# EAGLE library part SIMM68/2 (library con-amp1)
AMP connector
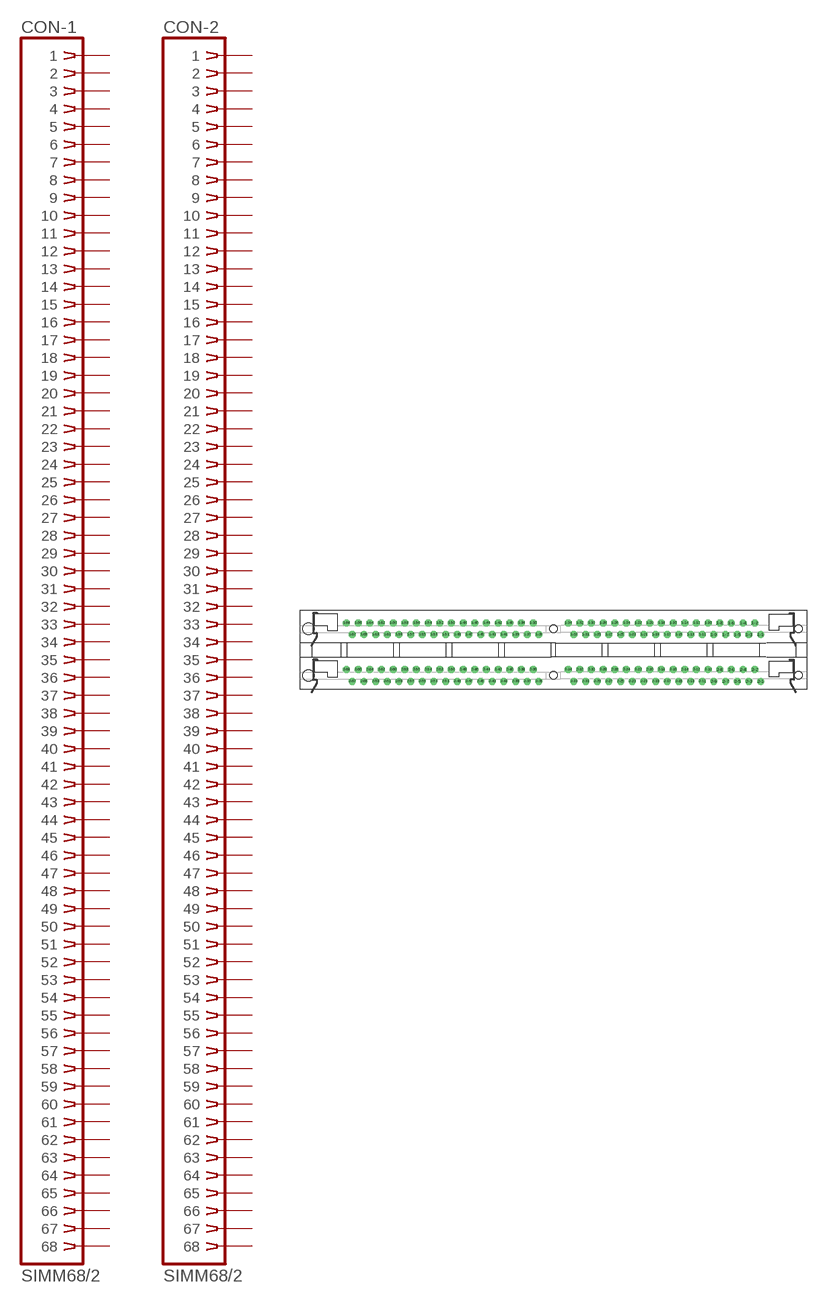
[diagram p12: symbol with the pads of 822023-3; footprint 822023-3]

Designator prefix CON; gates -1=SIMM68 -2=SIMM68

## SIMM68/2  [822023-3]
1-1  -1:1  pas
1-2  -1:2  pas
1-3  -1:3  pas
1-4  -1:4  pas
1-5  -1:5  pas
1-6  -1:6  pas
1-7  -1:7  pas
1-8  -1:8  pas
1-9  -1:9  pas
1-10  -1:10  pas
1-11  -1:11  pas
1-12  -1:12  pas
1-13  -1:13  pas
1-14  -1:14  pas
1-15  -1:15  pas
1-16  -1:16  pas
1-17  -1:17  pas
1-18  -1:18  pas
1-19  -1:19  pas
1-20  -1:20  pas
1-21  -1:21  pas
1-22  -1:22  pas
1-23  -1:23  pas
1-24  -1:24  pas
1-25  -1:25  pas
1-26  -1:26  pas
1-27  -1:27  pas
1-28  -1:28  pas
1-29  -1:29  pas
1-30  -1:30  pas
1-31  -1:31  pas
1-32  -1:32  pas
1-33  -1:33  pas
1-34  -1:34  pas
1-35  -1:35  pas
1-36  -1:36  pas
1-37  -1:37  pas
1-38  -1:38  pas
1-39  -1:39  pas
1-40  -1:40  pas
1-41  -1:41  pas
1-42  -1:42  pas
1-43  -1:43  pas
1-44  -1:44  pas
1-45  -1:45  pas
1-46  -1:46  pas
1-47  -1:47  pas
1-48  -1:48  pas
1-49  -1:49  pas
1-50  -1:50  pas
1-51  -1:51  pas
1-52  -1:52  pas
1-53  -1:53  pas
1-54  -1:54  pas
1-55  -1:55  pas
1-56  -1:56  pas
1-57  -1:57  pas
1-58  -1:58  pas
1-59  -1:59  pas
1-60  -1:60  pas
1-61  -1:61  pas
1-62  -1:62  pas
1-63  -1:63  pas
1-64  -1:64  pas
1-65  -1:65  pas
1-66  -1:66  pas
1-67  -1:67  pas
1-68  -1:68  pas
2-1  -2:1  pas
2-2  -2:2  pas
2-3  -2:3  pas
2-4  -2:4  pas
2-5  -2:5  pas
2-6  -2:6  pas
2-7  -2:7  pas
2-8  -2:8  pas
2-9  -2:9  pas
2-10  -2:10  pas
2-11  -2:11  pas
2-12  -2:12  pas
2-13  -2:13  pas
2-14  -2:14  pas
2-15  -2:15  pas
2-16  -2:16  pas
2-17  -2:17  pas
2-18  -2:18  pas
2-19  -2:19  pas
2-20  -2:20  pas
2-21  -2:21  pas
2-22  -2:22  pas
2-23  -2:23  pas
2-24  -2:24  pas
2-25  -2:25  pas
2-26  -2:26  pas
2-27  -2:27  pas
2-28  -2:28  pas
2-29  -2:29  pas
2-30  -2:30  pas
2-31  -2:31  pas
2-32  -2:32  pas
2-33  -2:33  pas
2-34  -2:34  pas
2-35  -2:35  pas
2-36  -2:36  pas
2-37  -2:37  pas
2-38  -2:38  pas
2-39  -2:39  pas
2-40  -2:40  pas
2-41  -2:41  pas
2-42  -2:42  pas
2-43  -2:43  pas
2-44  -2:44  pas
2-45  -2:45  pas
2-46  -2:46  pas
2-47  -2:47  pas
2-48  -2:48  pas
2-49  -2:49  pas
2-50  -2:50  pas
2-51  -2:51  pas
2-52  -2:52  pas
2-53  -2:53  pas
2-54  -2:54  pas
2-55  -2:55  pas
2-56  -2:56  pas
2-57  -2:57  pas
2-58  -2:58  pas
2-59  -2:59  pas
2-60  -2:60  pas
2-61  -2:61  pas
2-62  -2:62  pas
2-63  -2:63  pas
2-64  -2:64  pas
2-65  -2:65  pas
2-66  -2:66  pas
2-67  -2:67  pas
2-68  -2:68  pas

## Footprint 822023-3 (pad centres in mm)
SIMM Socket
drill 1.016 round: 1-1 45.085,-1.27; 2-1 45.085,-11.43
drill 1.016 octagon: 1-2 43.815,1.27; 1-3 42.545,-1.27; 1-4 41.275,1.27; 1-5 40.005,-1.27; 1-6 38.735,1.27; 1-7 37.465,-1.27; 1-8 36.195,1.27; 1-9 34.925,-1.27; 1-10 33.655,1.27; 1-11 32.385,-1.27; 1-12 31.115,1.27; 1-13 29.845,-1.27; 1-14 28.575,1.27; 1-15 27.305,-1.27; 1-16 26.035,1.27; 1-17 24.765,-1.27; 1-18 23.495,1.27; 1-19 22.225,-1.27; 1-20 20.955,1.27; 1-21 19.685,-1.27; 1-22 18.415,1.27; 1-23 17.145,-1.27; 1-24 15.875,1.27; 1-25 14.605,-1.27; 1-26 13.335,1.27; 1-27 12.065,-1.27; 1-28 10.795,1.27; 1-29 9.525,-1.27; 1-30 8.255,1.27; 1-31 6.985,-1.27; 1-32 5.715,1.27; 1-33 4.445,-1.27; 1-34 3.175,1.27; 1-35 -3.175,-1.27; 1-36 -4.445,1.27; 1-37 -5.715,-1.27; 1-38 -6.985,1.27; 1-39 -8.255,-1.27; 1-40 -9.525,1.27; 1-41 -10.795,-1.27; 1-42 -12.065,1.27; 1-43 -13.335,-1.27; 1-44 -14.605,1.27; 1-45 -15.875,-1.27; 1-46 -17.145,1.27; 1-47 -18.415,-1.27; 1-48 -19.685,1.27; 1-49 -20.955,-1.27; 1-50 -22.225,1.27; 1-51 -23.495,-1.27; 1-52 -24.765,1.27; 1-53 -26.035,-1.27; 1-54 -27.305,1.27; 1-55 -28.575,-1.27; 1-56 -29.845,1.27; 1-57 -31.115,-1.27; 1-58 -32.385,1.27; 1-59 -33.655,-1.27; 1-60 -34.925,1.27; 1-61 -36.195,-1.27; 1-62 -37.465,1.27; 1-63 -38.735,-1.27; 1-64 -40.005,1.27; 1-65 -41.275,-1.27; 1-66 -42.545,1.27; 1-67 -43.815,-1.27; 1-68 -45.085,1.27; 2-2 43.815,-8.89; 2-3 42.545,-11.43; 2-4 41.275,-8.89; 2-5 40.005,-11.43; 2-6 38.735,-8.89; 2-7 37.465,-11.43; 2-8 36.195,-8.89; 2-9 34.925,-11.43; 2-10 33.655,-8.89; 2-11 32.385,-11.43; 2-12 31.115,-8.89; 2-13 29.845,-11.43; 2-14 28.575,-8.89; 2-15 27.305,-11.43; 2-16 26.035,-8.89; 2-17 24.765,-11.43; 2-18 23.495,-8.89; 2-19 22.225,-11.43; 2-20 20.955,-8.89; 2-21 19.685,-11.43; 2-22 18.415,-8.89; 2-23 17.145,-11.43; 2-24 15.875,-8.89; 2-25 14.605,-11.43; 2-26 13.335,-8.89; 2-27 12.065,-11.43; 2-28 10.795,-8.89; 2-29 9.525,-11.43; 2-30 8.255,-8.89; 2-31 6.985,-11.43; 2-32 5.715,-8.89; 2-33 4.445,-11.43; 2-34 3.175,-8.89; 2-35 -3.175,-11.43; 2-36 -4.445,-8.89; 2-37 -5.715,-11.43; 2-38 -6.985,-8.89; 2-39 -8.255,-11.43; 2-40 -9.525,-8.89; 2-41 -10.795,-11.43; 2-42 -12.065,-8.89; 2-43 -13.335,-11.43; 2-44 -14.605,-8.89; 2-45 -15.875,-11.43; 2-46 -17.145,-8.89; 2-47 -18.415,-11.43; 2-48 -19.685,-8.89; 2-49 -20.955,-11.43; 2-50 -22.225,-8.89; 2-51 -23.495,-11.43; 2-52 -24.765,-8.89; 2-53 -26.035,-11.43; 2-54 -27.305,-8.89; 2-55 -28.575,-11.43; 2-56 -29.845,-8.89; 2-57 -31.115,-11.43; 2-58 -32.385,-8.89; 2-59 -33.655,-11.43; 2-60 -34.925,-8.89; 2-61 -36.195,-11.43; 2-62 -37.465,-8.89; 2-63 -38.735,-11.43; 2-64 -40.005,-8.89; 2-65 -41.275,-11.43; 2-66 -42.545,-8.89; 2-67 -43.815,-11.43; 2-68 -45.085,-8.89
hole 2.438 at -53.34,0
hole 1.626 at 53.34,0
hole 2.438 at -53.34,-10.16
hole 1.626 at 53.34,-10.16
hole 1.626 at 0,0
hole 1.626 at 0,-10.16